# EAGLE library part ADXL34X (library FlashPCB_Sensors)
ADXL343 - Digital MEMS Accelerometer Technical Specifications: Acceleration: up to ÃƒÆ’Ã¢â‚¬Å¡Ãƒâ€šÃ‚Â±16g Supply Voltage Range: 2.0v - 3.6v Output Voltage Range: 1.7v to Vs Resolution: 3.9mg/LSB Shock Survival: 10,000g Component Search: [DATA SHEET NAME] <[FLASHPCB URL]> Datasheet: [ADXL343] <[https://www.analog.com/media/en/technical-documentation/data-sheets/ADXL343.pdf]>
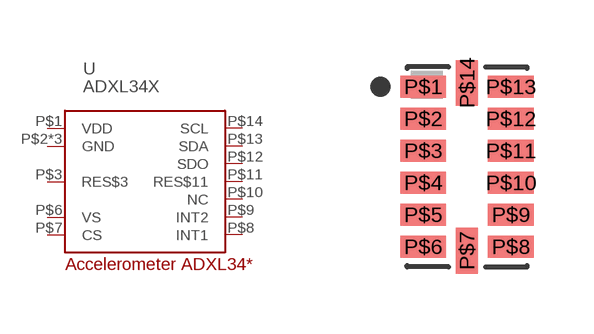
[diagram p4: symbol with the pads of 14-LGA(3X5); footprint 14-LGA(3X5)]

Designator prefix U

## ADXL34X  [14-LGA(3X5)]
P$1  VDD
P$2  GND  pwr
P$3  RES$3  pwr
P$4  GND  pwr
P$5  GND  pwr
P$6  VS  pwr
P$7  CS  in
P$8  INT1  out
P$9  INT2  out
P$10  NC  nc
P$11  RES$11  pwr
P$12  SDO  out
P$13  SDA  in
P$14  SCL

## Footprint 14-LGA(3X5) (pad centres in mm)
smd 1.145 x 0.55: P$1 -1.097,2; P$2 -1.097,1.2; P$3 -1.097,0.4; P$4 -1.097,-0.4; P$5 -1.097,-1.2; P$6 -1.097,-2; P$8 1.097,-2; P$9 1.097,-1.2; P$10 1.097,-0.4; P$11 1.097,0.4; P$12 1.097,1.2; P$13 1.097,2
smd 0.55 x 1.145: P$7 0,-2.098; P$14 0,2.098